# Altium schematic symbol library Schlib1.SchLib: 12 symbols
Pins are listed as number, name and electrical type; pins without a type are passive.

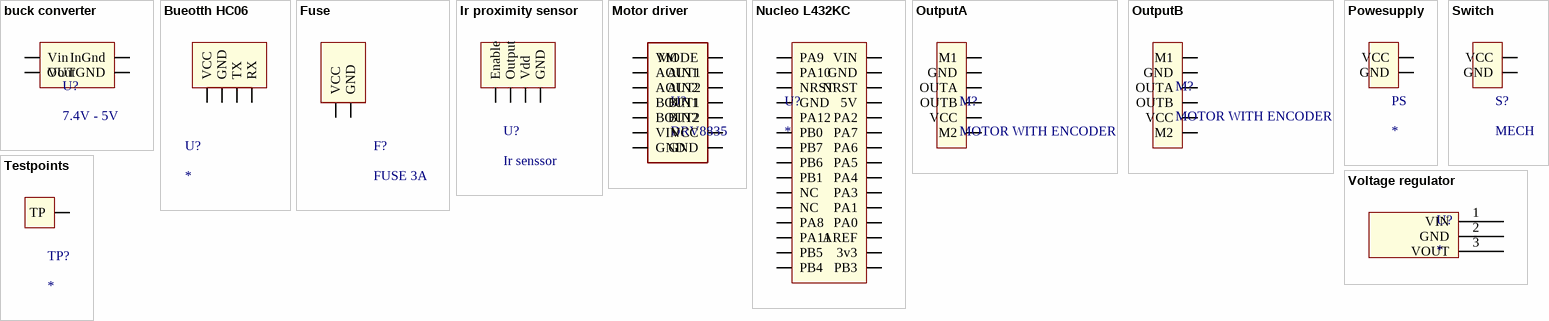
[diagram p0: symbols buck converter to Voltage regulator]

## buck converter
designator U?, comment 7.4V - 5V
pins: 1 Vin, 2 Vout, 3 InGnd, 4 OUTGND

## Bueotth HC06
designator U?
3.7 cm x 1.5 cm
footprint Bluetooth
pins: 1 VCC, 2 GND, 3 TX, 4 RX

## Fuse
designator F?, comment FUSE 3A
footprint Fuse
pins: 1 VCC, 2 GND

## Ir proximity sensor
designator U?, comment Ir senssor
footprint IR sensor
pins: 1 Enable, 2 Output , 3 Vdd, 4 GND

## Motor driver
designator U?, comment DRV8835
footprint Motor Driver
pins: 1 VM, 2 AOUT1, 3 AOUT2, 4 BOUT1, 5 BOUT2, 6 VIN, 7 GND, 8 MODE, 9 AIN1, 10 AIN2, 11 BIN1, 11 GND, 12 BIN2, 13 VCC

## Nucleo L432KC
designator U?
footprint Nucleo L432kc
pins: 1 PA9, 2 PA10, 3 NRST, 4 GND, 5 PA12, 6 PB0, 7 PB7, 8 PB6, 9 PB1, 10 NC, 11 NC, 12 PA8, 13 PA11, 14 PB5, 15 PB4, 16 VIN, 17 GND, 18 NRST, 19 5V, 20 PA2, 21 PA7, 22 PA6, 23 PA5, 24 PA4, 25 PA3, 26 PA1, 27 PA0, 28 AREF, 29 3v3, 30 PB3

## OutputA
designator M?, comment MOTOR WITH ENCODER
footprint OUTPUTa
pins: 1 M1, 2 GND, 3 OUTA, 4 OUTB, 5 VCC, 6 M2

## OutputB
designator M?, comment MOTOR WITH ENCODER
footprint OUTPUTB
pins: 1 M1, 2 GND, 3 OUTA, 4 OUTB, 5 VCC, 6 M2

## Powesupply
designator PS
footprint Power Suply
pins: 1 VCC, 2 GND

## Switch
designator S?, comment MECH
footprint Switch
pins: 1 VCC, 2 GND

## Testpoints
designator TP?
footprint TP
footprint Model Name (Footprint not found)
pins: 1 TP

## Voltage regulator
designator U?
footprint Voltage Regulator
pins: 1 VIN, 2 GND, 3 VOUT